# Altium schematic symbol library MEGAphone.SCHLIB: 62 symbols
Pins are listed as number, name and electrical type; pins without a type are passive.

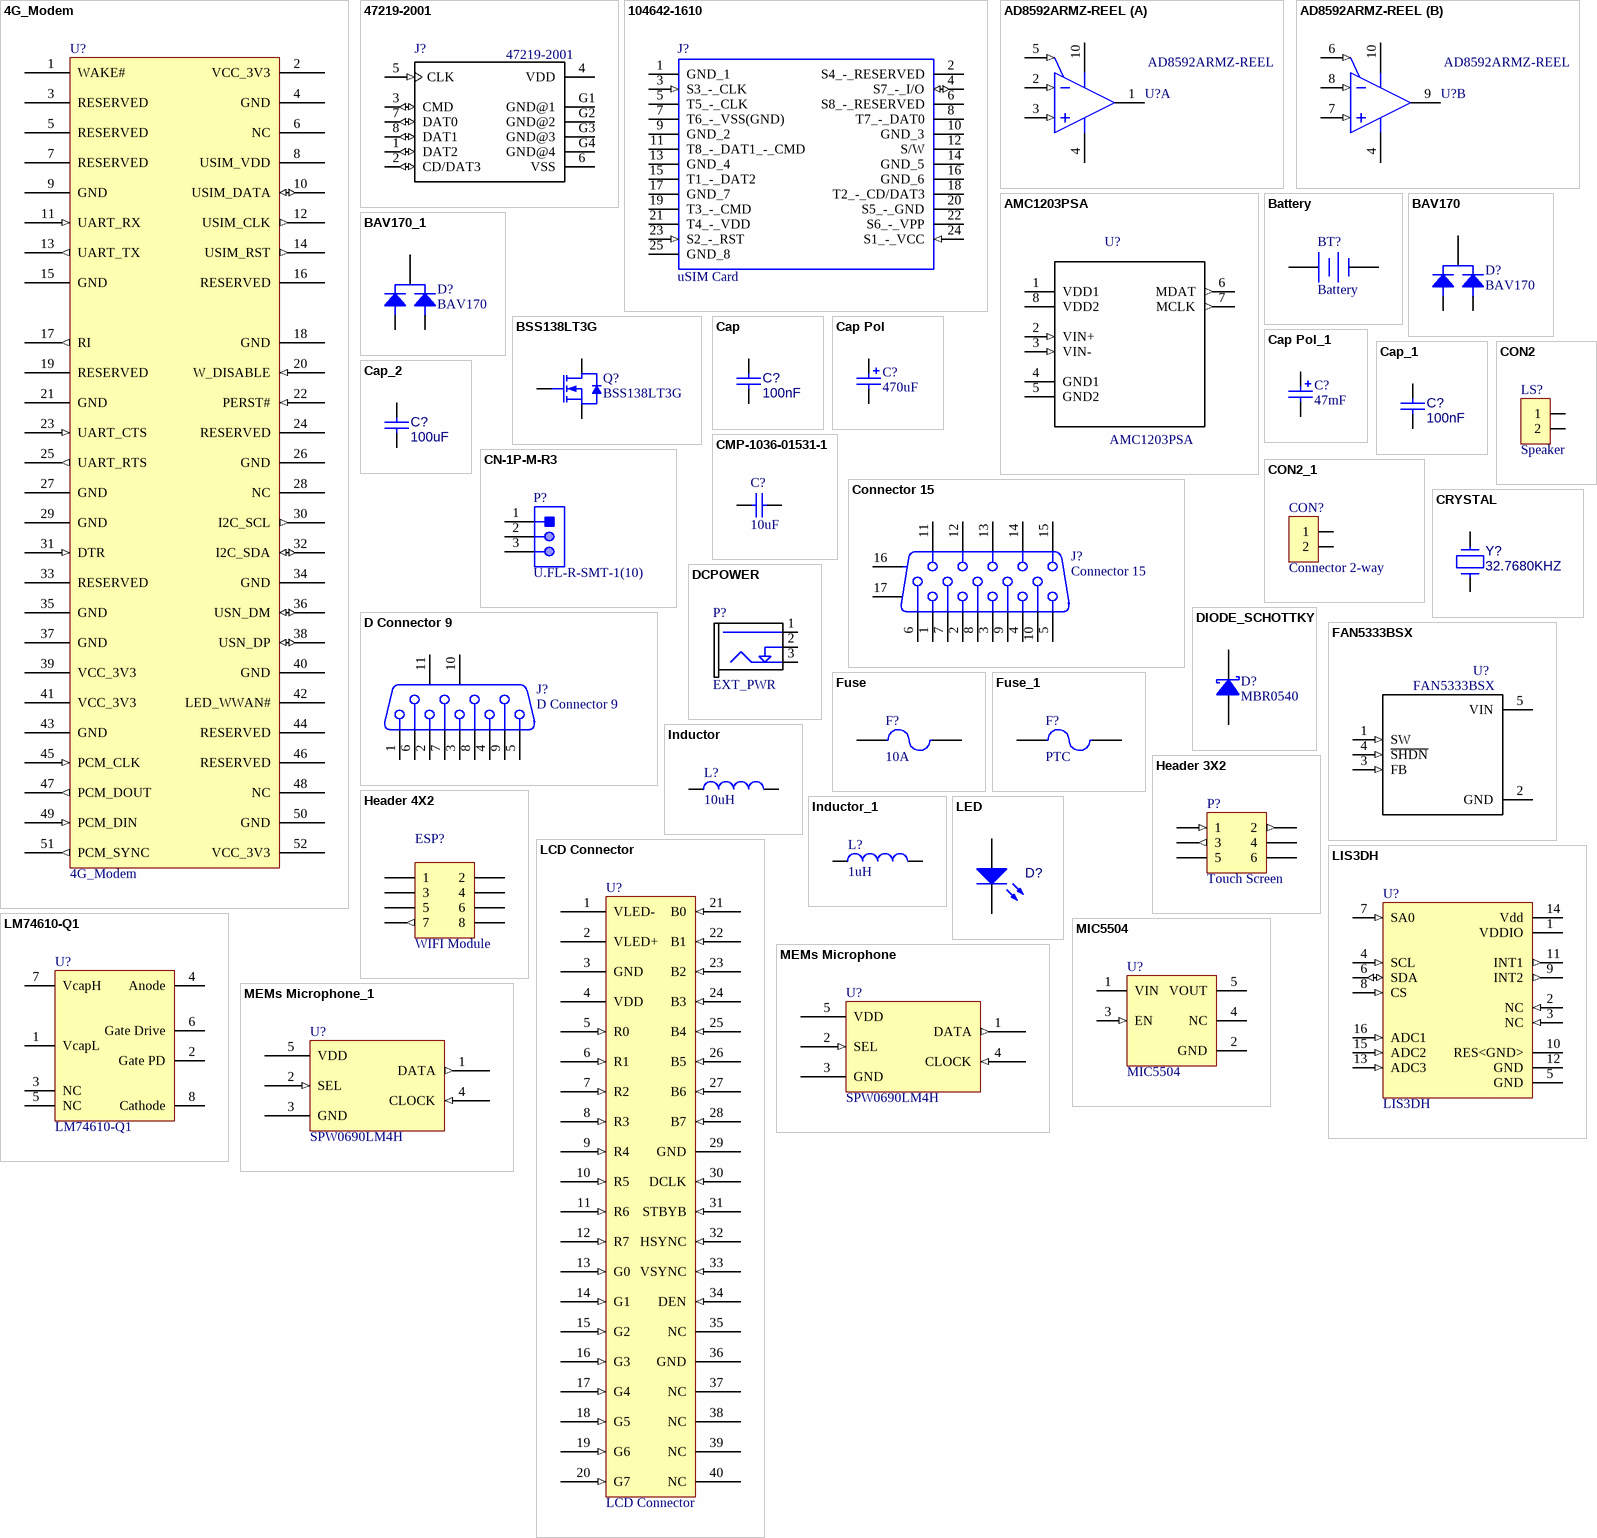
[diagram p0: symbols 4G_Modem to MIC5504]

## 4G_Modem
designator U?
Manufacturer: Molex; Manufacturer Number: 0679100002; Digikey Number: WM3470CT-ND
footprint MOLEX_67910001 (4G Modem Connecter)
footprint CONNECTOR MINI PCIE MOLEX_67910001 (CONN PCI EXP MINI FEMALE 52POS)
pins: 1 WAKE# (oc), 2 VCC_3V3 (power), 3 RESERVED, 4 GND, 5 RESERVED, 6 NC, 7 RESERVED, 8 USIM_VDD (power), 9 GND, 10 USIM_DATA (io), 11 UART_RX (in), 12 USIM_CLK (out), 13 UART_TX (out), 14 USIM_RST (out), 15 GND, 16 RESERVED, 17 RI (out), 18 GND, 19 RESERVED, 20 W_DISABLE (in), 21 GND, 22 PERST# (in), 23 UART_CTS (in), 24 RESERVED, 25 UART_RTS (out), 26 GND, 27 GND, 28 NC, 29 GND, 30 I2C_SCL (out), 31 DTR (in), 32 I2C_SDA (io), 33 RESERVED, 34 GND, 35 GND, 36 USN_DM (io), 37 GND, 38 USN_DP (io), 39 VCC_3V3 (power), 40 GND, 41 VCC_3V3 (power), 42 LED_WWAN# (oc), 43 GND, 44 RESERVED, 45 PCM_CLK (in), 46 RESERVED, 47 PCM_DOUT (out), 48 NC, 49 PCM_DIN (in), 50 GND, 51 PCM_SYNC (out), 52 VCC_3V3 (power)

## 47219-2001
designator J?
Conn Micro SD Card SKT 8 POS 1.1mm Solder RA SMD 0.5A/Contact Embossed T/R; MF: Molex; Price: None; SnapEDA_Link: https://www.snapeda.com/parts/47219-2001/Molex/view-part/?ref=snap; Availability: Unavailable; MP: 47219-2001; Package: None; Value: *
footprint MOLEX_47219-2001_47219-2001(Primary)
footprint MOLEX_47219-2001_47219-2001(Primary)
pins: 1 DAT2 (io), 2 CD/DAT3 (io), 3 CMD (io), 4 VDD (power), 5 CLK (in), 6 VSS (power), 7 DAT0 (io), 8 DAT1 (io), G1 GND@1 (power), G2 GND@2 (power), G3 GND@3 (power), G4 GND@4 (power)

## 104642-1610
designator J?, comment uSIM Card
Molex 104642 Series 8 Way Micro SIM, MicroSD Memory Card Connector with Solder Termination; Manufacturer Number: 104642-1610; RS Part Number: 1213817P; Digikey Number: WM12958CT-ND; Manufacturer: Molex
footprint 1046421610
footprint CONNECTOR MSIM MOLEX 1046421610 (COMBO 2.10H PULLER TYPE  MICROSD/MICROSIM 8P/8P WITH S/W)
pins: 1 GND_1, 2 S4_-_RESERVED, 3 S3_-_CLK (in), 4 S7_-_I/O (io), 5 T5_-_CLK, 6 S8_-_RESERVED, 7 T6_-_VSS(GND), 8 T7_-_DAT0, 9 GND_2, 10 GND_3, 11 T8_-_DAT1_-_CMD, 12 S/W, 13 GND_4, 14 GND_5, 15 T1_-_DAT2, 16 GND_6, 17 GND_7, 18 T2_-_CD/DAT3, 19 T3_-_CMD, 20 S5_-_GND, 21 T4_-_VDD, 22 S6_-_VPP, 23 S2_-_RST (in), 24 S1_-_VCC (in), 25 GND_8

## AD8592ARMZ-REEL
designator U?
Double Channel Wide Bandwidth Operational Amplifier, 2.2 MHz BW, 3.5 V/us SR, Industrial, 10-pin SOP (RM-10), Reel; Manufacturer: Analog Devices; Digikey Number: AD8592ARMZ-REELCT-ND; Manufacturer Number: AD8592ARMZ-REEL
footprint ADI-RM-10_M (SOP, 10-Leads, Body 3x3mm, Pitch 0.5mm, IPC Low Density)
pins on every part: 4 -V (power), 10 +V (power)
part A pins: 1 OUT A (hiz), 2 -IN A (in), 3 +IN A (in), 5 ~{SDA} (in)
part B pins: 6 ~{SDB} (in), 7 +IN B (in), 8 -IN B (in), 9 OUT B (hiz)

## AMC1203PSA
designator U?
Single Channel Single ADC Delta-Sigma 40ksps 16-bit Serial 8-Pin SOP Tube; Manufacturer: Texas Instruments; Digikey Number: 296-27654-5-ND; Manufacturer Number: AMC1203PSA
footprint SOIC127P790X200-8N
footprint DUB0008A_M (SOP, 8-Leads, Body 6.7x9.6mm, Pitch 2.54mm, IPC Low Density)
pins: 1 VDD1 (power), 2 VIN+ (in), 3 VIN- (in), 4 GND1, 5 GND2, 6 MDAT (out), 7 MCLK (out), 8 VDD2 (power)

## Battery
designator BT?
Multicell Battery; Manufacturer: Phoenix; Manufacturer Number: 1757242
footprint BAT-2 (Battery; 2 Leads)
footprint CONNECTOR PHOENIX 1757242 (HEADER, RIGHT ANGLE, 5.08MM, 2WAY)
pins: 1 +, 2 -

## BAV170
designator D?
Dual Common Cathode Silicon Low Leakage Diode 3-Pin SOT-23; Manufacturer: Infineon Technologies; Manufacturer Number: BAV170E6327HTSA1; Digikey Number: BAV170E6327HTSA1CT-ND
footprint SOT-23
pins: 1 A1, 2 A2, 3 K

## BAV170_1
designator D?, comment BAV170
Dual Common Cathode Silicon Low Leakage Diode 3-Pin SOT-23; Manufacturer: Infineon Technologies; Manufacturer Number: BAV170E6327HTSA1; Digikey Number: BAV170E6327HTSA1CT-ND
footprint SOT-23
pins: 1 A1, 2 A2, 3 K

## BSS138LT3G
designator Q?
Power MOSFET, 200 mA, 50 V, N-Channel, 3-Pin SOT-23, Pb-Free, Tape and Reel; Manufacturer: On Semiconductor; Element 14 Part Number: 1431319; Manufacturer Number: BSS138LT3G; Digikey Number: BSS138LT3GOSCT-ND
footprint ONSC-SOT-23-3-318-08_V (SOT23, 3-Leads, Body 2.92x1.3mm, Pitch 0.95mm)
footprint SOT-23
pins: 1 G, 2 S, 3 D

## Cap
designator C?, comment 100nF
Capacitor; Value: 100nF
footprint RAD-0.3 (Capacitor; 2 Leads)
footprint VP32-3.2 (Capacitor, Ceramic, Thru-Hole, Dipped Radial; Body 5.1 x 3.2 mm (WxT) Pin Spacing 2.54 mm (typ))
footprint VP45-3.2 (Capacitor, Ceramic, Thru-Hole, Dipped Radial; Body 7.8 x 3.2 mm (WxT) Pin Spacing 5.08 mm (typ))
simulation model CAP (Capacitor)
signal-integrity model Cap
footprint 1206-Capacitor 1uF
footprint 1206-Capacitor 10uF
footprint 1206-Capacitor 12pF
footprint 0805-CAP-H_SLDR nF
footprint 0805-CAP-H_SLDR pF
footprint 0805-CAP-H_SLDR uF
footprint 0603_CAP PF HD (Chip Capacitor, Body 1.6x0.8mm, IPC High Density)
footprint 0603_CAP UF HD (Chip Capacitor, Body 1.6x0.8mm, IPC High Density)
footprint 1210-CAPACITOR UF (Body 3.2 x 2.5 mm (LxW typ))
footprint 0805 Reflow Cap
pins: 1, 2

## Cap Pol
designator C?, comment 470uF
Polarized Capacitor (Radial); Manufacturer: AVX Corporation; Manufacturer Number: TPSD477K006R0060; Value: 470uF; Digikey Number: 478-11421-1-ND
footprint RB7.6-15 (Polarized Capacitor (Radial); 2 Leads)
footprint CAPPR1.27-1.7x2.8 (Capacitor, Radial, Tantalum; Body 1.7 x 2.8 mm (Dia.xH max); Pin Spacing 1.27 mm (typ))
footprint CAPPR1.5-4x5 (Capacitor, Electrolytic, Radial; Body 4 x 5 mm (Dia.xH typ); Pin Spacing 1.5 mm (typ))
footprint CAPPR2-5x6.8 (Capacitor, Electrolytic, Radial; Body 5 x 6.8 mm (Dia.xH typ); Pin Spacing 2 mm (typ))
footprint CAPPR5-5x5 (Capacitor, Electrolytic, Radial; Body 5 x 5 mm (Dia.xH typ); Pin Spacing 5 mm (typ))
footprint CAPPR7.5-16x35 (Capacitor, Electrolytic, Radial; Body 16 x 35 mm (Dia.xH typ); Pin Spacing 7.5 mm (typ))
simulation model CAP (Capacitor)
signal-integrity model Cap Pol
footprint Cap SMD F (Capacitor SMD F)
footprint TC3216-1206 (Capacitor, SM Tantalum; Body 3.2 x 1.6 mm (LxW typ))
footprint CAP Case D Tantalum (Molded Capacitor, 2-Leads, Body 7.50x4.5mm)
footprint CAP SMD G (SMT Aluminum Electrolytic Capacitor)
footprint Cap E (Capacitor, Electrolytic, Radial; Body 8 x 10.5 mm (Dia.xH typ); Pin Spacing 3.5 mm (typ))
footprint CAP SMD F55 (Nippon Chemi-Con F55 electro cap SMD)
footprint CAP SMD HA0
pins: 1, 2
1 alternate drawing of the same symbol

## Cap Pol_1
designator C?, comment 47mF
Polarized Capacitor (Radial); Manufacturer: KEMET; Manufacturer Number: FC0H473ZFTBR24; Value: 47mF; Digikey Number: 399-10938-1-ND
footprint RB7.6-15 (Polarized Capacitor (Radial); 2 Leads)
footprint CAPPR1.27-1.7x2.8 (Capacitor, Radial, Tantalum; Body 1.7 x 2.8 mm (Dia.xH max); Pin Spacing 1.27 mm (typ))
footprint CAPPR1.5-4x5 (Capacitor, Electrolytic, Radial; Body 4 x 5 mm (Dia.xH typ); Pin Spacing 1.5 mm (typ))
footprint CAPPR2-5x6.8 (Capacitor, Electrolytic, Radial; Body 5 x 6.8 mm (Dia.xH typ); Pin Spacing 2 mm (typ))
footprint CAPPR5-5x5 (Capacitor, Electrolytic, Radial; Body 5 x 5 mm (Dia.xH typ); Pin Spacing 5 mm (typ))
footprint CAPPR7.5-16x35 (Capacitor, Electrolytic, Radial; Body 16 x 35 mm (Dia.xH typ); Pin Spacing 7.5 mm (typ))
simulation model CAP (Capacitor)
signal-integrity model Cap Pol
footprint Cap SMD F (Capacitor SMD F)
footprint TC3216-1206 (Capacitor, SM Tantalum; Body 3.2 x 1.6 mm (LxW typ))
footprint Cap SMD C (Capacitor SMD C)
footprint CAP SMD G (SMT Aluminum Electrolytic Capacitor)
footprint Cap E (Capacitor, Electrolytic, Radial; Body 8 x 10.5 mm (Dia.xH typ); Pin Spacing 3.5 mm (typ))
footprint CAP SMD F55 (Nippon Chemi-Con F55 electro cap SMD)
footprint CAP SMD HA0
footprint CAP SMD 10.5D 5.5H
pins: 1, 2
1 alternate drawing of the same symbol

## Cap_1
designator C?, comment 100nF
Capacitor; Value: 100nF
footprint RAD-0.3 (Capacitor; 2 Leads)
footprint VP32-3.2 (Capacitor, Ceramic, Thru-Hole, Dipped Radial; Body 5.1 x 3.2 mm (WxT) Pin Spacing 2.54 mm (typ))
footprint VP45-3.2 (Capacitor, Ceramic, Thru-Hole, Dipped Radial; Body 7.8 x 3.2 mm (WxT) Pin Spacing 5.08 mm (typ))
simulation model CAP (Capacitor)
signal-integrity model Cap
footprint 1206-Capacitor 1uF
footprint 1206-Capacitor 10uF
footprint 1206-Capacitor 12pF
footprint 0805-CAP-H_SLDR nF
footprint 0805-CAP-H_SLDR pF
footprint 0805-CAP-H_SLDR uF
footprint 0603_CAP PF HD (Chip Capacitor, Body 1.6x0.8mm, IPC High Density)
footprint 0603_CAP UF HD (Chip Capacitor, Body 1.6x0.8mm, IPC High Density)
footprint 1210-CAPACITOR UF (Body 3.2 x 2.5 mm (LxW typ))
pins: 1, 2

## Cap_2
designator C?, comment 100uF
Capacitor; Manufacturer: Taiyo Yuden; Manufacturer Number: LMK325BJ107MM-T; Value: 100uF; Digikey Number: 587-1965-1-ND
footprint RAD-0.3 (Capacitor; 2 Leads)
footprint VP32-3.2 (Capacitor, Ceramic, Thru-Hole, Dipped Radial; Body 5.1 x 3.2 mm (WxT) Pin Spacing 2.54 mm (typ))
footprint VP45-3.2 (Capacitor, Ceramic, Thru-Hole, Dipped Radial; Body 7.8 x 3.2 mm (WxT) Pin Spacing 5.08 mm (typ))
simulation model CAP (Capacitor)
signal-integrity model Cap
footprint 1206-Capacitor 1uF
footprint 1206-Capacitor 10uF
footprint 1206-Capacitor 12pF
footprint 0805-CAP-H_SLDR nF
footprint 0805-CAP-H_SLDR pF
footprint 0805-CAP-H_SLDR uF
footprint 0603_CAP PF HD (Chip Capacitor, Body 1.6x0.8mm, IPC High Density)
footprint 0603_CAP UF HD (Chip Capacitor, Body 1.6x0.8mm, IPC High Density)
footprint 1210-CAPACITOR UF (Body 3.2 x 2.5 mm (LxW typ))
footprint 0805 Reflow Cap
footprint 1210-CAPACITOR UF (Body 3.2 x 2.5 mm (LxW typ))
pins: 1, 2

## CMP-1036-01531-1
designator C?, comment 10uF
0805 (2012 Metric); Tolerance: Â±2%; Rated Voltage: 100 V; Case-Metric: 2012; Case-EIA: 0805; Value: 39pF; Technology: SMT; Max Thickness: 1 mm
footprint CAPC0805(2012)100_N (Chip Capacitor, Body 2.0x1.2mm, Height 1.0mm, IPC Medium Density)
footprint CAPC0805(2012)100_L (Chip Capacitor, Body 2.0x1.2mm, Height 1.0mm, IPC High Density)
footprint CAPC0805(2012)100_M (Chip Capacitor, Body 2.0x1.2mm, Height 1.0mm, IPC Low Density)
pins: 1, 2
1 alternate drawing of the same symbol

## CN-1P-M-R3
designator P?, comment U.FL-R-SMT-1(10)
Ultra Small Surface Mount Coaxial Connector, -40 to 90 degC, 2-Pin SMT, RoHS, Tape and Reel; Manufacturer: Hirose Electric; Connector Style: U.FL,UltraMiniatureCoaxial; Center Contact Plating: Gold; Body Material: PhosphorBronze; Center Contact Material: Brass; Body Finish: Silver; Frequency - Max: 6GHz; Shield Termination: Solder; Impedance: 50Ohm; Online Catalog: UMCC(UltraMiniatureCoaxConnectors),U.FLSeries; Other Names: H11891TRQ5400621U.FL-R-SMT-110U.FL-R-SMT-1(10)-NDUFLRSMT110; Featured Product: U.FLSeriesConnectors; Connector Type: Receptacle,MalePin; Dielectric Material: LiquidCrystalPolymer(LCP); Fastening Type: Snap-On; Features: -; Operating Temperature: -40degC~90degC; Mounting Type: SurfaceMount; Ingress Protection: -; Packaging: Tape&Reel(TR); Datasheet Version: Feb-04; Category: Connectors,Interconnects; Housing Color: Beige; Manufacturer URL: https://www.hirose.com; Series: U.FL; Contact Termination: Solder; Datasheet URL: http://www.farnell.com/datasheets/91524.pdf; Cable Group: -; Family: CoaxialConnectors(RF); Standard Package: 2,500; Voltage Rating: -
footprint HRS-U.FL-R-SMT-1(10)_V (SMD, 3-Leads, Body 2.6x2.6mm)
pins: 1, 2, 3

## CON2
designator LS?, comment Speaker
footprint CONNECTOR TE 5-103735-1
footprint CONNECTOR MOLEX 53261027 (Connector 2-way SMT Right Angle)
footprint HDR1X2 (Connector; Header; 2 Position)
footprint CONNECTOR MOLEX 22-27-2021 (Connector; Header; 2 Position; Friction lock)
footprint CONNECTOR TE 5-104935-5
footprint CONNECTOR PHOENIX 1757242 (HEADER, RIGHT ANGLE, 5.08MM, 2WAY)
footprint CONNECTOR PHOENIX  1755736 (PHOENIX CONTACT - 1755736 - HEADER, VERTICAL, 5.08MM, 2WAY)
footprint HDR1X2 (2)
pins: 1, 2

## CON2_1
designator CON?, comment Connector 2-way
footprint CONNECTOR TE 5-103735-1
footprint CONNECTOR MOLEX 53261027 (Connector 2-way SMT Right Angle)
footprint CONNECTOR MOLEX 533980271 (Connector Picoblade 2-way SMT Vertical)
footprint CONNECTOR MOLEX 22-27-2021 (Connector; Header; 2 Position; Friction lock)
footprint CONNECTOR TE 5-104935-5
footprint CONNECTOR PHOENIX 1757242 (HEADER, RIGHT ANGLE, 5.08MM, 2WAY)
footprint CONNECTOR PHOENIX  1755736 (PHOENIX CONTACT - 1755736 - HEADER, VERTICAL, 5.08MM, 2WAY)
footprint HDR1X2 (2)
pins: 1, 2

## Connector 15
designator J?
Receptacle Assembly, 15-Pin, Sim Line Connector; Manufacturer: NorComp Inc; Manufacturer Number: 200-015-263R001; Digikey Number: 200-15FA-ND
footprint 050DSUB0.762-4H15 (Connector; D Subminiature; 15 Position; Right Angle; Pitch 0.762 mm)
signal-integrity model Connector
footprint 15pinDSUB Connector
footprint DB15_PCB_RA FEMALE SMD (Norcomp 200-015-263R001)
pins: 1, 2, 3, 4, 5, 6, 7, 8, 9, 10, 11, 12, 13, 14, 15, 16 MH1, 17 MH2

## CRYSTAL
designator Y?, comment 32.7680KHZ
Crystal; Manufacturer: EPSON; Manufacturer Number: FC-135R 32.7680KA-AG3; Value: 32.7680KHZ; Digikey Number: SER4073CT-ND
footprint CRYSTAL HC49 SMD (Quartz Crystal, SM; 2 Leads; Body 11.4 x 4.8 x 5 mm (LxWxH))
footprint CRYSTAL CC5V-T1A (Minature SMT Crystal)
footprint FC-12M (Low profile SMD crystal)
footprint FC-135 (Low profile SMD crystal)
pins: 1, 2

## D Connector 9
designator J?
Receptacle Assembly, 9 Position, Right Angle; Manufacturer: NorComp Inc.; Manufacturer Number: 190-009-263R001; Digikey Number: 190-09FA-ND
signal-integrity model Connector
footprint DB9_PCB_RA MALE SMD (Norcomp 190-009-263R001)
pins: 1, 2, 3, 4, 5, 6, 7, 8, 9, 10 MH1, 11 MH2

## DCPOWER
designator P?, comment EXT_PWR
2.1mm DC JACK; Manufacturer: Altronics; Manufacturer Number: P0620
footprint DCPOWER
footprint DCPOWER - P0620 (2.1mm DC Socket Altronics part P0620)
pins: 1, 2, 3

## DIODE_SCHOTTKY
designator D?, comment MBR0540
Diode; Manufacturer: ON Semiconductor; Manufacturer Number: MBR0540; Digikey Number: MBR0540CT-ND
footprint ONSC-SOD-123-2-425-04_V (SOD, 2-Leads, Body 2.69x1.6mm)
footprint ONSC-SOD-323-2-477-02_V (SOD, 2-Leads, Body 1.7x1.25mm)
pins: 1 A, 2 K

## FAN5333BSX
designator U?
FAN5333B Series 5.5 V 1.5 MHz High Efficiency High Current Serial LED Driver; Manufacturer: ON Semiconductor; Digikey Number: FAN5333BSXCT-ND; Manufacturer Number: FAN5333BSX
footprint SOT95P280X145-5N
footprint SOT-23-5
pins: 1 SW (in), 2 GND (power), 3 FB (in), 4 ~{SHDN} (in), 5 VIN (power)

## Fuse
designator F?, comment 10A
Fuse; Manufacturer: Schurter Inc.; Manufacturer Number: 3404.0021.11; Digikey Number: 486-2999-ND; Value: 10A
simulation model FUSE (Spice Subcircuit)
footprint FUSE RESET MHP30-36-T (SMD MOUNT)
footprint FUSE 6.3 x 32mm Through Hole (Leaded fuse)
footprint FUSE OMF125 (SCHURTER OMF125)
pins: 1, 2

## Fuse_1
designator F?, comment PTC
Fuse; Manufacturer: Murata Electronics; Manufacturer Number: PRG18BB330MB1RB; Digikey Number: 490-2471-1-ND
simulation model FUSE (Spice Subcircuit)
footprint FUSE RESET MHP30-36-T (SMD MOUNT)
footprint FUSE 6.3 x 32mm Through Hole (Leaded fuse)
footprint FUSE OMF125 (SCHURTER OMF125)
footprint 0603-RESISTOR HD (Chip Resistor, Body 1.6x0.8mm, IPC High Density)
pins: 1, 2

## Header 3X2
designator P?, comment Touch Screen
Header, 3-Pin, Dual row; Manufacturer: Molex; Manufacturer Number: 0512810694; Digikey Number: WM10922CT-ND
signal-integrity model Connector
footprint 51281-0694 (6 Pin FPC Connector)
footprint CONNECTOR FPC MOLEX 51281-0694 (0.50mm Pitch Easy-On FFC/FPC Connector, Surface Mount, Right-Angle, Non-ZIF, Dual Contact Style, 1.20mm Mated Height, 6 Circuits, Gold (Au) Plating)
pins: 1 (in), 2 (out), 3 (out), 4, 5 (power), 6

## Header 4X2
designator ESP?, comment WIFI Module
Header, 4-Pin, Dual row; LatestRevisionDate: 17-Jul-2002; LatestRevisionNote: Re-released for DXP Platform.; Publisher: Altium Limited
footprint HDR2X4 (Connector; Header; 4x2 Position)
signal-integrity model Connector
pins: 1 (power), 2, 3, 4, 5, 6, 7 (out), 8

## Inductor
designator L?  value 10uH  (hidden comment: Inductor)
Manufacturer: TDK; Manufacturer Number: SLF6025T-100M1R0-PF; Digikey Number: 445-174416-1-ND
simulation model INDUCTOR (Inductor)
signal-integrity model Inductor
footprint 252012 (SMD Power Inductor, 2-Leads, Body 2.5x2.0mm)
footprint TDK-SLF-6025-2_V (SMD, 2-Leads, Body 6x6mm, Height 2.7mm)
pins: 1, 2

## Inductor_1
designator L?, comment value 1uH  (hidden comment: Inductor)
Manufacturer: MuRata Toko; Manufacturer Number: DFE252012F-1R0M=P2; Digikey Number: 490-13053-1-ND
simulation model INDUCTOR (Inductor)
signal-integrity model Inductor
footprint 252012 (SMD Power Inductor, 2-Leads, Body 2.5x2.0mm)
pins: 1, 2

## LCD Connector
designator U?
Manufacturer: TE Connectivity; Manufacturer Number: 4-1734839-0; Digikey Number: A100229CT-ND
footprint J_SMD_4-1734839-0-40_0.5_25.43_5.1_2.05_4-1734839-0(Primary)
footprint Connector FPC 40 pin TE 4-1734839-0 (40 Position FPC Connector Contacts, Top 0.020" (0.50mm) Surface Mount, Right Angle)
pins: 1 VLED-, 2 VLED+, 3 GND, 4 VDD, 5 R0 (in), 6 R1 (in), 7 R2 (in), 8 R3 (in), 9 R4 (in), 10 R5 (in), 11 R6 (in), 12 R7 (in), 13 G0 (in), 14 G1 (in), 15 G2 (in), 16 G3 (in), 17 G4 (in), 18 G5 (in), 19 G6 (in), 20 G7 (in), 21 B0 (in), 22 B1 (in), 23 B2 (in), 24 B3 (in), 25 B4 (in), 26 B5 (in), 27 B6 (in), 28 B7 (in), 29 GND, 30 DCLK (in), 31 STBYB (in), 32 HSYNC (in), 33 VSYNC (in), 34 DEN (in), 35 NC, 36 GND, 37 NC, 38 NC, 39 NC, 40 NC

## LED
designator D?
LED; Manufacturer: *; Element 14 Part Number: *
simulation model LED3 (Diode)
footprint LED 3mm Red
footprint LED-0805-H_SLDR RED LTST-C170CKT
footprint LED-0805-HD RED LTST-C170CKT (LED 0805 High Density ,LTST-C170CKT)
footprint LED 1.6 x 0.8mm (1.6mmX0.8mm SMT LED, 0.75mm thickness.)
footprint LED 3.2 x 1.6mm - duplicate (3.2mm X 1.6mm SMT LED, 1.8mm thickness.)
pins: A, K

## LIS3DH
designator U?
Accelerometer
footprint LIS3DH (Footprint not found)
footprint LGA-16_3x3x1mm (Accelerometer)
pins: 1 VDDIO (power), 2 NC (in), 3 NC (in), 4 SCL (in), 5 GND "Ground", 6 SDA (io) "SDA_3.3V", 7 SA0 (in) "I2C mode selection pin (1: I2C mode)", 8 CS (in) "I2C mode selection CS=1", 9 INT2 (out) "Interrupt 2", 10 RES<GND> (power) "Reset", 11 INT1 (out) "Inertial Interrupt 1", 12 GND "Ground", 13 ADC3 (in) "Analog to digital converter input 3", 14 Vdd (power) "Power supply", 15 ADC2 (in) "Analog to digital converter input2", 16 ADC1 (in) "Analog to digital converter input 1"

## LM74610-Q1
designator U?
Zero IQ Reverse Polarity Protection Smart Diode Controller; Manufacturer: TI; Manufacturer Number: LM74610-Q1; Digikey Number: 296-43067-6-ND
footprint TI-DGK8_V (VSSOP, 8-Leads, Body 3x3mm, Pitch 0.65mm)
pins: 1 VcapL, 2 Gate PD, 3 NC, 4 Anode, 5 NC, 6 Gate Drive, 7 VcapH, 8 Cathode

## MEMs Microphone
designator U?, comment SPW0690LM4H
Manufacturer: Knowles; Manufacturer Number: SPW0690LM4H-1; Digikey Number: 423-1423-1-ND
footprint MICROPHONE MEMS SPW0690LM4H-1 (MULTIMODE DIGITAL BOTTOM PORT  SISONIC™ MICROPHONE)
pins: 1 DATA (out), 2 SEL (in), 3 GND (power), 4 CLOCK (in), 5 VDD (power)

## MEMs Microphone_1
designator U?, comment SPW0690LM4H
Manufacturer: Knowles; Manufacturer Number: SPW0690LM4H-1; Digikey Number: 423-1423-1-ND
footprint SPW0690LM4H-1
footprint MICROPHONE MEMS SPW0690LM4H-1 (MULTIMODE DIGITAL BOTTOM PORT  SISONIC™ MICROPHONE)
pins: 1 DATA (out), 2 SEL (in), 3 GND (power), 4 CLOCK (in), 5 VDD (power)

## MIC5504
designator U?
300 mA Single Output LDO in Small Packages; Manufacturer: Microchip; Manufacturer Number: MIC5504-1.8YM5-TR; Digikey Number: 576-4879-1-ND
footprint SOT-23-5
pins: 1 VIN (power) "Supply Input", 2 GND (power) "Ground", 3 EN (in) "Enable Input: Active High. High=ON; low=OFF. MIC5504 have an internal pull-down and this pin may be left floating.", 4 NC "No Connection. Pin is not internally connected.", 5 VOUT (power) "Output Voltage. When disable the MIC5504 switches in an internal 25 ohm load to discharge the external capacitors."

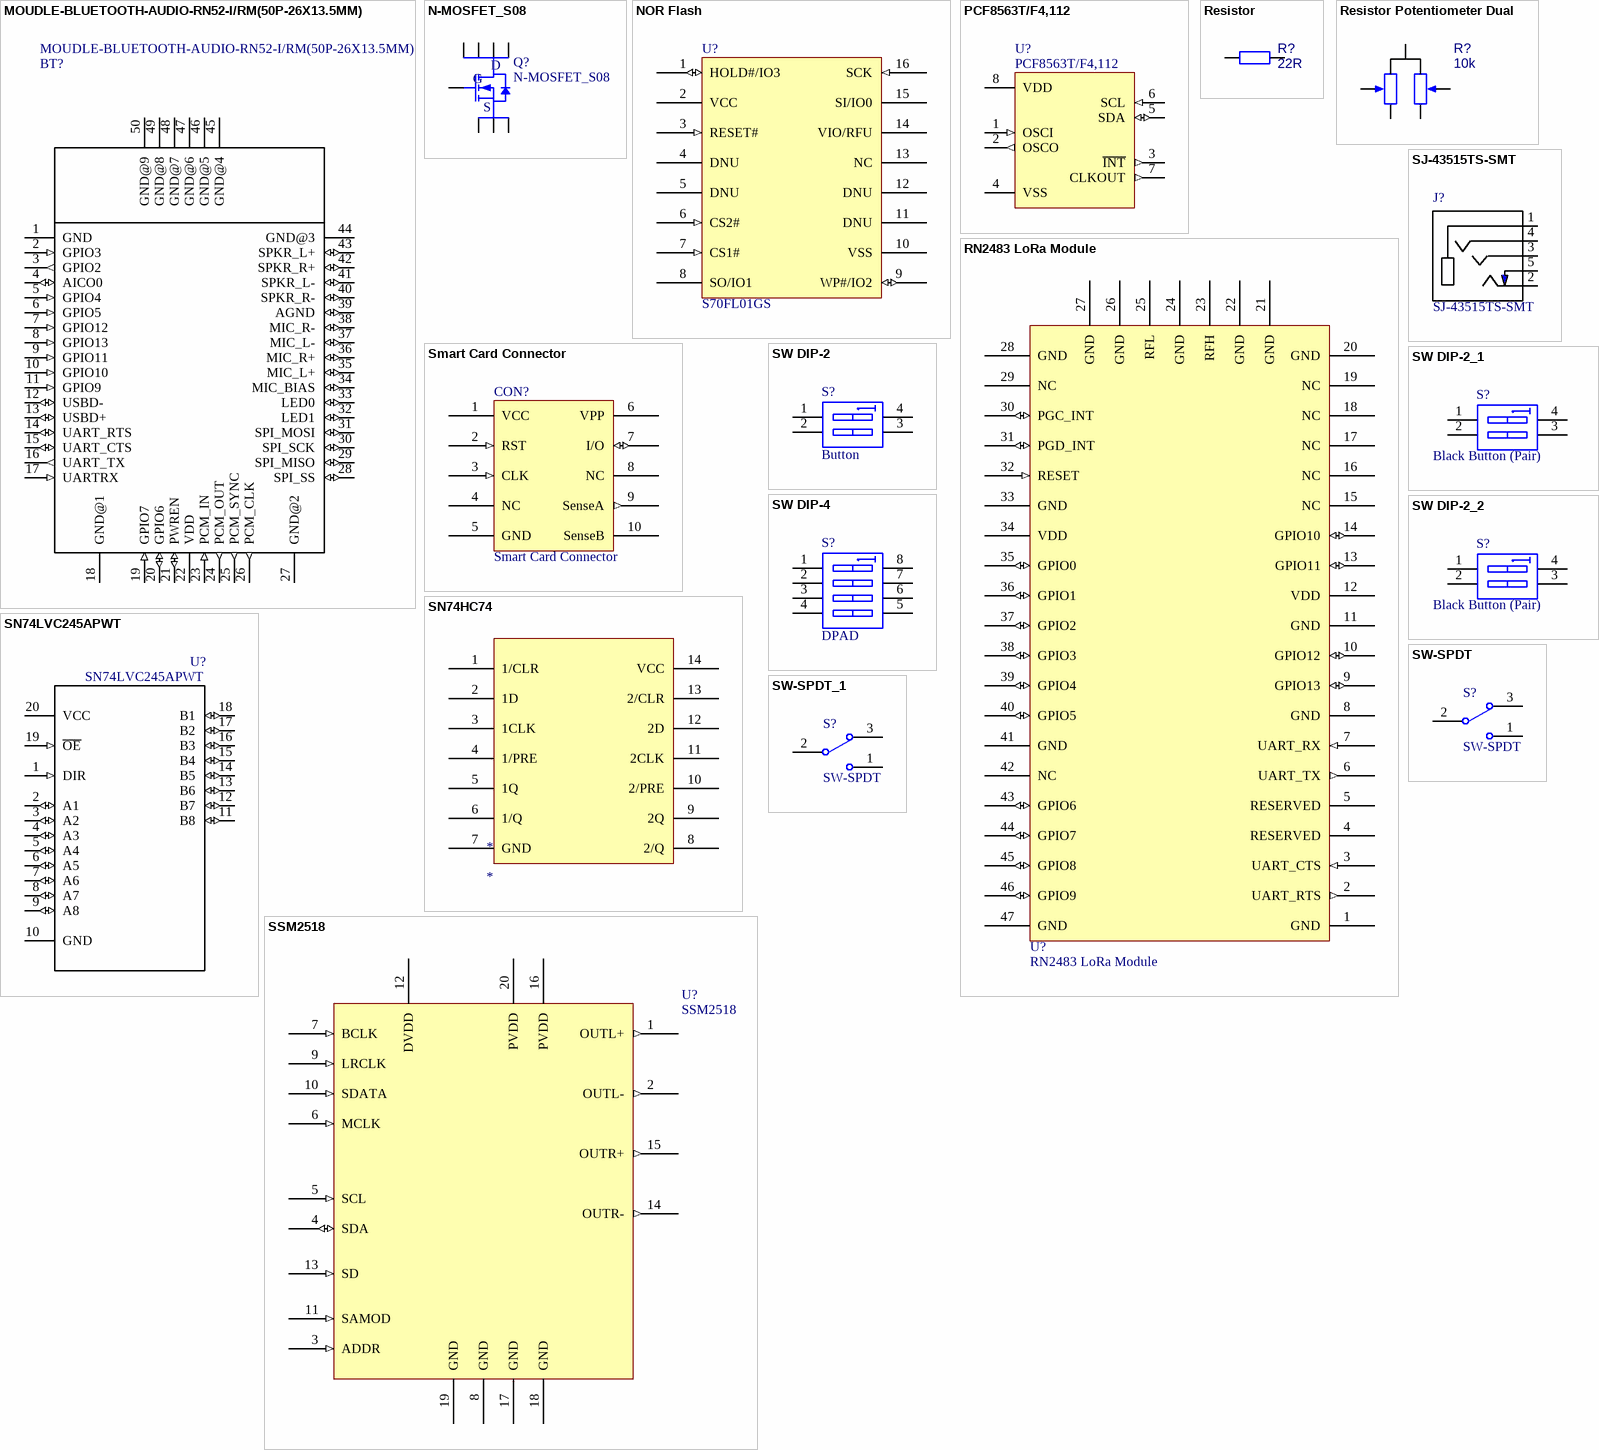
[diagram p1: symbols MOUDLE-BLUETOOTH-AUDIO-RN52-I/RM(50P-26X13.5MM) to SW-SPDT_1]

## MOUDLE-BLUETOOTH-AUDIO-RN52-I/RM(50P-26X13.5MM)
designator BT?
Bluetooth 3.0 class 2 surface mount audio module with PCB trace antenna; MF: Microchip; MP: RN52-I/RM; Availability: Bad; Package: SMD-50 Microchip; Price: 21.05 USD; SnapEDA_Link: https://www.snapeda.com/parts/RN52-I/RM/Microchip/view-part/?ref=snap; Value: *
footprint LGA50-1.0-26X13.5MM
pins: 1 GND, 2 GPIO3 (in), 3 GPIO2 (out), 4 AICO0 (io), 5 GPIO4 (in), 6 GPIO5 (in), 7 GPIO12 (in), 8 GPIO13 (in), 9 GPIO11 (in), 10 GPIO10 (in), 11 GPIO9 (in), 12 USBD- (io), 13 USBD+ (io), 14 UART_RTS (io), 15 UART_CTS (io), 16 UART_TX (out), 17 UARTRX (in), 18 GND@1, 19 GPIO7 (in), 20 GPIO6 (io), 21 PWREN (io), 22 VDD (power), 23 PCM_IN (in), 24 PCM_OUT (out), 25 PCM_SYNC (out), 26 PCM_CLK (out), 27 GND@2, 28 SPI_SS (io), 29 SPI_MISO (io), 30 SPI_SCK (io), 31 SPI_MOSI (io), 32 LED1 (io), 33 LED0 (io), 34 MIC_BIAS (io), 35 MIC_L+ (io), 36 MIC_R+ (io), 37 MIC_L- (io), 38 MIC_R- (io), 39 AGND (io), 40 SPKR_R- (io), 41 SPKR_L- (io), 42 SPKR_R+ (io), 43 SPKR_L+ (io), 44 GND@3, 45 GND@4, 46 GND@5, 47 GND@6, 48 GND@7, 49 GND@8, 50 GND@9

## N-MOSFET_S08
designator Q?
N-Mosfet SOIC-8
footprint SOIC-8-H_SLDR
pins: 1 S, 2 S, 3 S, 4 G, 5 D, 6 D, 7 D, 8 D

## NOR Flash
designator U?, comment S70FL01GS
Manufacturer: S70FL01GSDPMFI010; Manufacturer Number: S70FL01GS; Digikey Number: S70FL01GSDPMFI010-ND
footprint SOIC127P1030X265-16N
footprint SOIC-16 M (SOIC 16 pin low density)
pins: 1 HOLD#/IO3 (io), 2 VCC (power), 3 RESET# (in), 4 DNU, 5 DNU, 6 CS2# (in), 7 CS1# (in), 8 SO/IO1, 9 WP#/IO2 (io), 10 VSS (power), 11 DNU, 12 DNU, 13 NC, 14 VIO/RFU (power), 15 SI/IO0, 16 SCK (in)

## PCF8563T/F4,112
designator U?
PCF8563 Series 1.8 - 5.5 V 250 mA Real-time Clock/Calendar - SOIC-8
footprint SOIC-8-H_SLDR
pins: 1 OSCI (in), 2 OSCO (out), 3 ~{INT} (out), 4 VSS, 5 SDA (io), 6 SCL (in), 7 CLKOUT (out), 8 VDD (power)

## Resistor
designator R?, comment 22R
Resistor; Value: 22R
footprint AXIAL-0.4 (Resistor; 2 Leads)
simulation model RESISTOR (Resistor)
signal-integrity model Res
footprint 0805 H_SLDR
footprint 1206-Resistor-H_SLDR
footprint 0603-RESISTOR HD (Chip Resistor, Body 1.6x0.8mm, IPC High Density)
footprint 2512 (Chip Resistor; Body 6.4 x 3.2 mm (LxW typ))
footprint 0805 Reflow
pins: 1, 2

## Resistor Potentiometer Dual
designator R?, comment 10k
Resistor; Manufacturer: TOP UP Industry; Manufacturer Number: 10P2VF-D-14X1Y; Value: 10k
footprint POT 10P2VF-D-141Y (10MM SIZE THIN MICRO POTENTIOMETER, INSULATED SHAFT SERIES)
pins: 1, 2A, 2B, 3A, 3B

## RN2483 LoRa Module
designator U?
footprint MICROCHIP_RN2483-I/RM095
pins: 1 GND, 2 UART_RTS (out), 3 UART_CTS (in), 4 RESERVED, 5 RESERVED, 6 UART_TX (out), 7 UART_RX (in), 8 GND, 9 GPIO13 (io), 10 GPIO12 (io), 11 GND, 12 VDD (power), 13 GPIO11 (io), 14 GPIO10 (io), 15 NC, 16 NC, 17 NC, 18 NC, 19 NC, 20 GND, 21 GND, 22 GND, 23 RFH, 24 GND, 25 RFL, 26 GND, 27 GND, 28 GND, 29 NC, 30 PGC_INT (io), 31 PGD_INT (io), 32 RESET (in), 33 GND, 34 VDD (power), 35 GPIO0 (io), 36 GPIO1 (io), 37 GPIO2 (io), 38 GPIO3 (io), 39 GPIO4 (io), 40 GPIO5 (io), 41 GND, 42 NC, 43 GPIO6 (io), 44 GPIO7 (io), 45 GPIO8 (io), 46 GPIO9 (io), 47 GND

## SJ-43515TS-SMT
designator J?
SJ Series 3.5 mm 16 V 4 Conductor SMT Mid Mount Stereo Audio Jack; Manufacturer: CUI; Manufacturer Number: SJ-43515TS-SMT-TR; Digikey Number: CP-43515TSSJCT-ND
footprint CUI_SJ-43515TS-SMT
footprint SOCKET 3.5 TRRS CUI_SJ-43515TS-SMT (3.5 MM AUDIO JACKS)
pins: 1 SLEEVE, 2 TIP, 3 RING1, 4 RING2, 5 TIP_SWITCH

## Smart Card Connector
designator CON?
Manufacturer Number: 7312P0225A13LF; Manufacturer: Amphenol FCI; Digikey Number: 609-4481-ND
footprint Smart Card Connector (609-4481-ND)
pins: 1 VCC (power), 2 RST (in), 3 CLK (in), 4 NC, 5 GND, 6 VPP (power), 7 I/O (io), 8 NC, 9 SenseA (out), 10 SenseB

## SN74HC74
designator *
footprint SOIC-14 (SOIC, 14-Leads, Body 8.65x3.90mm, Pitch 1.27mm, IPC Medium Density)
pins: 1 1/CLR, 2 1D, 3 1CLK, 4 1/PRE, 5 1Q, 6 1/Q, 7 GND, 8 2/Q, 9 2Q, 10 2/PRE, 11 2CLK, 12 2D, 13 2/CLR, 14 VCC

## SN74LVC245APWT
designator U?
Octal Bus Transceiver With 3-State Outputs 20-TSSOP -40 to 125; Manufacturer: Texas Instruments; Digikey Number: 296-49918-1-ND; Manufacturer Number: SN74LVC245APWT
footprint DGV20_M (TSSOP, 20-Leads, Body 5x4.4mm, Pitch 0.4mm, IPC Low Density)
pins: 1 DIR (in), 2 A1 (io), 3 A2 (io), 4 A3 (io), 5 A4 (io), 6 A5 (io), 7 A6 (io), 8 A7 (io), 9 A8 (io), 10 GND, 11 B8 (io), 12 B7 (io), 13 B6 (io), 14 B5 (io), 15 B4 (io), 16 B3 (io), 17 B2 (io), 18 B1 (io), 19 ~{OE} (in), 20 VCC (power)

## SSM2518
designator U?
Manufacturer: Analog Devices; Manufacturer Number: SSM2518CPZ-R7; Digikey Number: SSM2518CPZ-R7CT-ND
footprint QFN50P400X400X100-21N
footprint CP-20-8_M (QFN, 20-Leads, Body 4x4mm, Pitch 0.5mm, Thermal Pad 2.6x2.6mm, IPC Low Density)
pins: 1 OUTL+ (out), 2 OUTL- (out), 3 ADDR (in), 4 SDA (io), 5 SCL (in), 6 MCLK (in), 7 BCLK (in), 8 GND (power), 9 LRCLK (in), 10 SDATA (in), 11 SAMOD (in), 12 DVDD (power), 13 SD (in), 14 OUTR- (out), 15 OUTR+ (out), 16 PVDD (power), 17 GND (power), 18 GND (power), 19 GND (power), 20 PVDD (power)

## SW DIP-2
designator S?, comment Button
DIP Switch, 2 Position, SPST
footprint DIP-4 (DIP; 4 Leads; Row Spacing 7.62 mm; Pitch 2.54 mm)
simulation model dpsw2 (Spice Subcircuit)
footprint Button
footprint Buttons Gameboy
pins: 1 A1, 2 A2, 3 B2, 4 B1

## SW DIP-2_1
designator S?, comment Black Button (Pair)
DIP Switch, 2 Position, SPST
footprint DIP-4 (DIP; 4 Leads; Row Spacing 7.62 mm; Pitch 2.54 mm)
simulation model dpsw2 (Spice Subcircuit)
footprint Button
footprint Black Button
footprint Buttons Gameboy Black (DMG-SEL)
pins: 1 A1, 2 A2, 3 B2, 4 B1

## SW DIP-2_2
designator S?, comment Black Button (Pair)
DIP Switch, 2 Position, SPST; Manufacturer: Gameboy Black Pair
footprint Buttons Gameboy Black (DMG-SEL)
pins: 1 A1, 2 A2, 3 B2, 4 B1

## SW DIP-4
designator S?, comment DPAD
DIP Switch, 4 Position, SPST
footprint SO8_N (SOIC, 8-Leads, Body 4.9x3.9mm, Pitch 1.27mm, IPC Medium Density)
footprint SO8_L (SOIC, 8-Leads, Body 4.9x3.9mm, Pitch 1.27mm, IPC High Density)
footprint SO8_M (SOIC, 8-Leads, Body 4.9x3.9mm, Pitch 1.27mm, IPC Low Density)
simulation model dpsw4 (Spice Subcircuit)
footprint DPAD
footprint DPAD Gameboy
pins: 1 A1, 2 A2, 3 A3, 4 A4, 5 B4, 6 B3, 7 B2, 8 B1

## SW-SPDT
designator S?
SPDT Subminiature Toggle Switch, Right Angle Mounting, Vertical Actuation; Manufacturer: C & K COMPONENTS; Manufacturer Number: OS102011MA1QN1; Digikey Number: CKN9559-ND; Element 14 Part Number: 1201431
footprint TL36WW15050 (Switch; 4 Leads)
footprint Switch Slide SPDT
footprint Switch SPDT OS102011MA1Q (C&K OS Series  Miniature Slide Switches RA, SPDT)
pins: 1, 2 (power), 3

## SW-SPDT_1
designator S?, comment SW-SPDT
SPDT Subminiature Toggle Switch, Right Angle Mounting, Vertical Actuation; Manufacturer: C & K COMPONENTS; Manufacturer Number: OS102011MA1QN1; Digikey Number: CKN9559-ND; Element 14 Part Number: 1201431
footprint TL36WW15050 (Switch; 4 Leads)
footprint Switch SPDT OS102011MA1Q (C&K OS Series  Miniature Slide Switches RA, SPDT)
pins: 1, 2 (power), 3

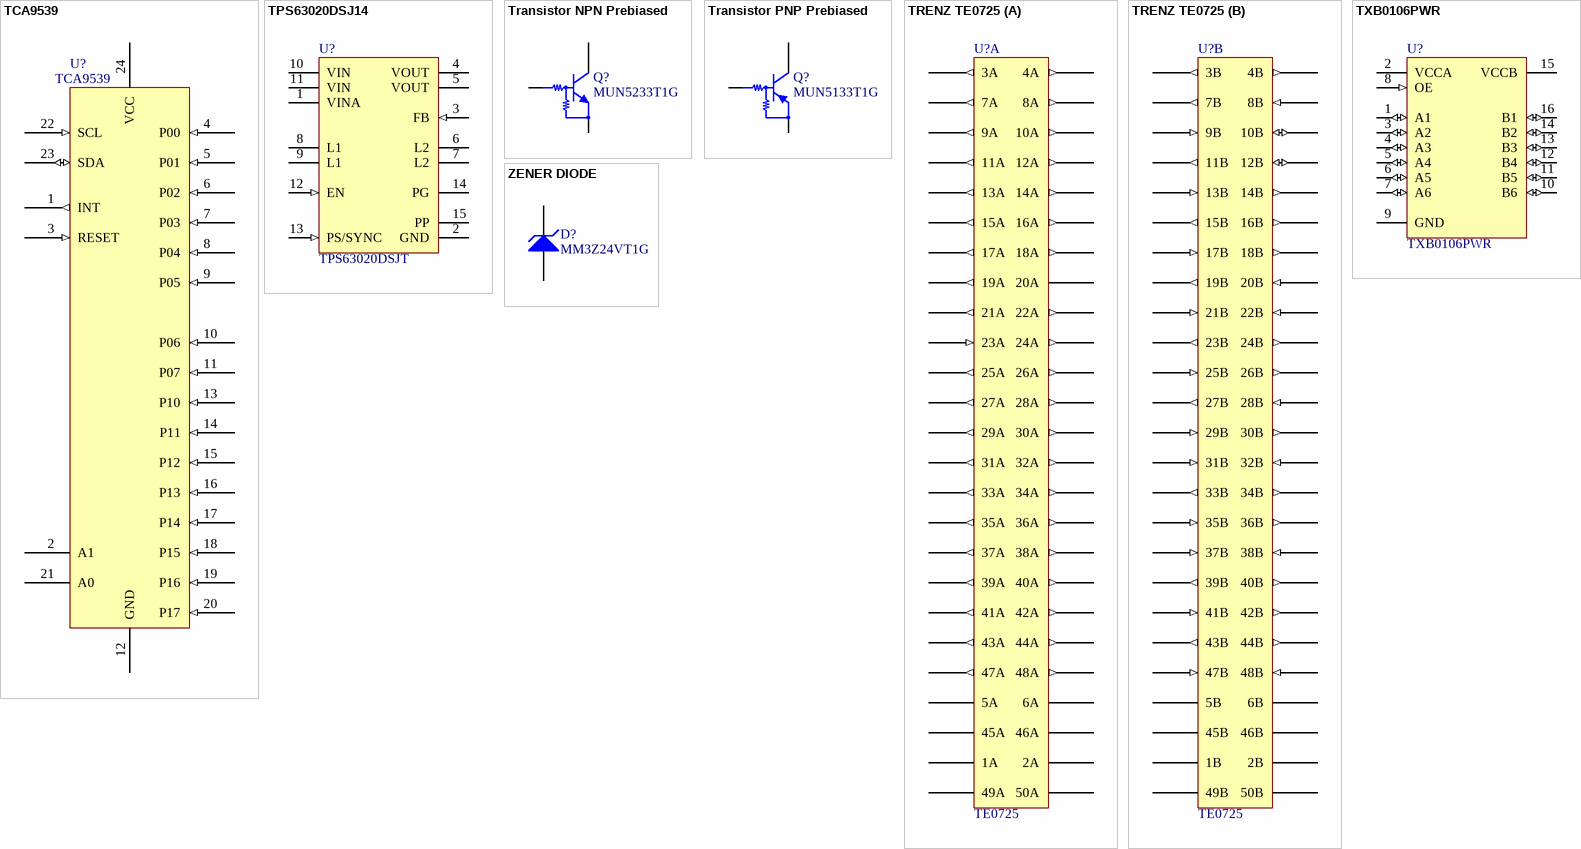
[diagram p2: symbols TCA9539 to ZENER DIODE]

## TCA9539
designator U?
Manufacturer: Texas Instruments; Manufacturer Number: TCA9539PWR; Digikey Number: 296-25130-1-ND
footprint PW0024A_M (SOP, 24-Leads, Body 7.9x4.5mm, Pitch 0.65mm, IPC Low Density)
pins: 1 INT (out), 2 A1, 3 RESET (in), 4 P00 (in), 5 P01 (in), 6 P02 (in), 7 P03 (in), 8 P04 (in), 9 P05 (in), 10 P06 (in), 11 P07 (in), 12 GND, 13 P10 (in), 14 P11 (in), 15 P12 (in), 16 P13 (in), 17 P14 (in), 18 P15 (in), 19 P16 (in), 20 P17 (in), 21 A0, 22 SCL (in), 23 SDA (io), 24 VCC

## TPS63020DSJ14
designator U?, comment TPS63020DSJT
High Efficiency Single Inductor Buck-Boost Converter, 4 A, 1.8 to 5.5 V Input, 1.2 to 5.5 V Output, -40 to 85 degC, 14-Pin VSON (DSJ), Green (RoHS & no Sb/Br), Tape and Reel; Manufacturer: Texas Instruments; Manufacturer Number: TPS63020
footprint DSJ14-4000X1580TP_V (SON, 14-Leads, Body 4.15x3.15mm, Pitch 0.5mm)
pins: 1 VINA (power) "Supply voltage for control stage", 2 GND (power) "Control / logic ground", 3 FB (in) "Voltage feedback of adjustable versions, must be connected to VOUT on fixed output voltage versions", 4 VOUT (power) "Buck-boost converter output", 5 VOUT (power) "Buck-boost converter output", 6 L2 "Connection for Inductor", 7 L2 "Connection for Inductor", 8 L1 "Connection for Inductor", 9 L1 "Connection for Inductor", 10 VIN (power) "Supply voltage for power stage", 11 VIN (power) "Supply voltage for power stage", 12 EN (in) "Enable input (1 enabled, 0 disabled) , must not be left open", 13 PS/SYNC (in) "Enable / disable power save mode (1 disabled, 0 enabled, clock signal for synchronization), must not be left open", 14 PG (oc) "Output power good (1 good, 0 failure; open drain)", 15 PP (power) "Must be connected to PGND. Must be soldered to achieve appropriate power dissipation."

## Transistor NPN Prebiased
designator Q?, comment MUN5233T1G
NPN Bipolar Transistor, Prebiased; Manufacturer: ON Semiconductor; Manufacturer Number: MUN5233T1G; Digikey Number: MUN5233T1GOSCT-ND
simulation model NPN
signal-integrity model NPN
footprint SC70-3 (SOT-323)
pins: 1 E, 2 B, 3 C

## Transistor PNP Prebiased
designator Q?, comment MUN5133T1G
PNP Bipolar Transistor, Prebiased; Manufacturer: ON Semiconductor; Manufacturer Number: MUN5133T1G; Digikey Number: MUN5133T1GOSCT-ND
simulation model NPN
signal-integrity model NPN
footprint SC70-3 (SOT-323)
pins: 1 B, 2 E, 3 C

## TRENZ TE0725
designator U?, comment TE0725
FPGA Module Xilinx Artix-7 100T, optical transceiver; Manufacturer: TE Connectivity; Manufacturer Number: 7-534206-5; Digikey Number: A32951-ND
footprint Trenz TE-0725 (FPGA Break out using 2 off 50pos headers)
part A pins: 1A (power), 2A (power), 3A (out), 4A (out), 5A (power), 6A (power), 7A (out), 8A (out), 9A (out), 10A (out), 11A (out), 12A (out), 13A (out), 14A (out), 15A (out), 16A (out), 17A (out), 18A (out), 19A (out), 20A (oc), 21A (out), 22A (out), 23A (in), 24A (out), 25A (out), 26A (out), 27A (out), 28A (out), 29A (out), 30A (out), 31A (out), 32A (out), 33A (out), 34A (out), 35A (out), 36A (out), 37A (out), 38A (out), 39A (out), 40A (out), 41A (out), 42A (out), 43A (out), 44A (out), 45A (power), 46A (power), 47A (out), 48A (out), 49A (power), 50A (power)
part B pins: 1B (power), 2B (power), 3B (out), 4B (out), 5B (power), 6B (power), 7B (out), 8B (in), 9B (in), 10B (io), 11B (out), 12B (io), 13B (in), 14B (out), 15B (out), 16B (out), 17B (in), 18B (out), 19B (out), 20B (in), 21B (in), 22B (in), 23B (out), 24B (out), 25B (in), 26B (out), 27B (out), 28B (in), 29B (in), 30B (out), 31B (in), 32B (in), 33B (out), 34B (out), 35B (in), 36B (out), 37B (in), 38B (in), 39B (out), 40B (out), 41B (in), 42B (out), 43B (out), 44B (out), 45B (power), 46B (power), 47B (in), 48B (in), 49B (power), 50B (power)
1 alternate drawing of the same symbol

## TXB0106PWR
designator U?
6-Bit Bidirectional Level-Shifting and Voltage Translator with Auto-Direction Sensing and +/- 15-kV ESD Protection, 1.2 to 3.6 V, -40 to 85 degC, 16-Pin TSSOP (PW), Green (RoHS & no Sb/Br), Tape and Reel; Manufacturer: Texas Instruments; Manufacturer Number: TXB0106PWR; Digikey Number: 296-23759-1-ND
footprint TSSOP-16 (SOP, 16-Leads, Body 5.1x4.5mm, Pitch 0.65mm, IPC Low Density)
footprint TSSOP-16 (SOP, 16-Leads, Body 5.1x4.5mm, Pitch 0.65mm, IPC Low Density)
pins: 1 A1 (io) "Input/output 1. Referenced to VCCA.", 2 VCCA (power) "A-port supply Voltage. 1.2V<=VCCA<=3.6V,VCCA <=VCCB.", 3 A2 (io) "Input/output 2. Referenced to VCCA.", 4 A3 (io) "Input/output 3. Referenced to VCCA.", 5 A4 (io) "Input/output 4. Referenced to VCCA.", 6 A5 (io) "Input/output 5. Referenced to VCCA.", 7 A6 (io) "Input/output 6. Referenced to VCCA.", 8 OE (in) "Output enable. Pull OE low to place all outputs in 3-state mode.Referenced to VCCA .", 9 GND (power) "Ground", 10 B6 (io) "Input/output 6. Referenced to VCCB.", 11 B5 (io) "Input/output 5. Referenced to VCCB.", 12 B4 (io) "Input/output 4. Referenced to VCCB.", 13 B3 (io) "Input/output 3. Referenced to VCCB.", 14 B2 (io) "Input/output 2. Referenced to VCCB.", 15 VCCB (power) "B-port supply Voltage. 1.65V<=VCCB<=5.5V.", 16 B1 (io) "Input/output 1. Referenced to VCCB."

## ZENER DIODE
designator D?, comment MM3Z24VT1G
Zener Diode; Manufacturer: ON Semiconductor; Manufacturer Number: MM3Z24VT1G; Digikey Number: MM3Z24VT1GOSCT-ND
simulation model ZENER (Diode)
signal-integrity model D Zener
footprint SOT-23
footprint GMD2 (2-pin mini-mold type high-density mounting); pin to pad 3>2
footprint X1-DFN1006-2 (Diode Ultra-Small Leadless Surface Mount Package); pin to pad 3>2
footprint SMB (SMB/DO214AA); pin to pad 3>2
footprint SMA (SMA/DO214AC); pin to pad 3>2
footprint SOD-123; pin to pad 3>2
footprint ONSC-SOD-323-2-477-02_V (SOD, 2-Leads, Body 1.7x1.25mm); pin to pad 3>2
pins: 1 A, 3 K